# Altium schematic symbol library electromechanical.SchLib: 7 symbols
Pins are listed as number, name and electrical type; pins without a type are passive.

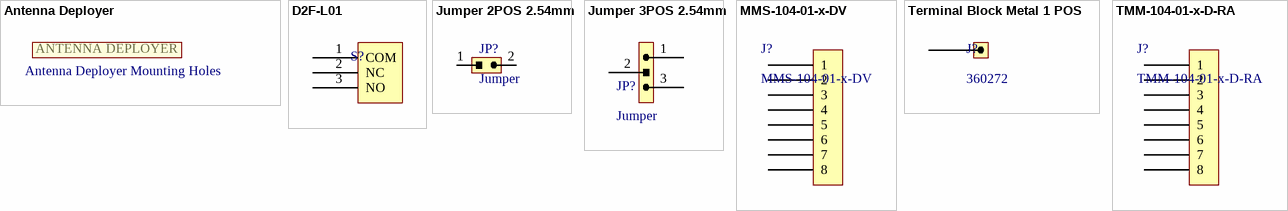
[diagram p0: symbols Antenna Deployer to TMM-104-01-x-D-RA]

## Antenna Deployer
designator MP?, comment Antenna Deployer Mounting Holes
footprint ANTENNA DEPLOYER
text: ANTENNA DEPLOYER

## D2F-L01
designator S?  (value not drawn)
SWITCH SNAP ACT SPDT 100MA 30V; Manufacturer 1: Omron; Manufacturer Part Number 1: D2F-01L; Description: Switch Snap Action N.O./N.C. SPDT Hinge Lever PC Pins 0.1A 30VDC 1.47N Screw Mount/Through Hole; Mechanical Life: 1000000Cycles; Actuator Material: Stainless Steel; Electrical Life: 30000Cycles; Switch Function: On-Mom; Operating Force: 0.78N; Differential Travel: 0.02inch; Overtravel: 0.022inch; Operating Position: 0.268inch; Actuator Type: HINGE LEVER; Number of Poles: 1; Insulation Resistance: 100MR; Ratings: IP40; Approvals: UL,CSA; Supplier 1: Digi-Key; Stock 1: 0; Pricing 1: 1=1.94000, 10=1.82800, 25=1.75480, 50=1.68160, 100=1.60840, 250=1.27944 (USD); RoHS: Yes; Mount: Through Hole,PCB,Screw; Contact Material: Gold; Contact Plating: Gold; Weight: 0.017637oz; Min Operating Temperature: -25°C; Max Operating Temperature: 65°C; Voltage Rating (DC): 30V; Throw Configuration: SPDT; Current Rating: 100mA; Packaging: Bulk; Termination: PC Pins; Max Voltage Rating (DC): 30V; Package Quantity: 1000; Series: D2F; Orientation: Straight; Max Current Rating: 100mA; Contact Current Rating: 100mA; Length: 13.95mm; Depth: 5.8mm; Radiation Hardening: No; Lead Free: Lead Free; REACH SVHC: No SVHC; ComponentLink1URL: https://datasheet.ciiva.com/26945/getdatasheetpartid-388881-26945786.pdf?src-supplier=Verical; ComponentLink1Description: https://datasheet.ciiva.com/26945/getdatasheetpartid-388881-26945786.pdf?src-supplier=Verical; ComponentLink2URL: https://datasheet.ciiva.com/1628/en-d2f-1628759.pdf?src-supplier=Farnell; ComponentLink2Description: https://datasheet.ciiva.com/1628/en-d2f-1628759.pdf?src-supplier=Farnell; ComponentLink3URL: https://datasheet.ciiva.com/2890/d2f-1113-2890889.pdf?src-supplier=Digi-Key; ComponentLink3Description: https://datasheet.ciiva.com/2890/d2f-1113-2890889.pdf?src-supplier=Digi-Key; ComponentLink4URL: https://datasheet.ciiva.com/14537/70175356-14537993.pdf?src-supplier=Allied+Electronics; ComponentLink4Description: https://datasheet.ciiva.com/14537/70175356-14537993.pdf?src-supplier=Allied+Electronics; ComponentLink5URL: https://datasheet.ciiva.com/16176/d2f-1110-16176606.pdf?src-supplier=Onlinecomponents.com; ComponentLink5Description: https://datasheet.ciiva.com/16176/d2f-1110-16176606.pdf?src-supplier=Onlinecomponents.com; ComponentLink6URL: https://datasheet.ciiva.com/1530/1825221-1530488.pdf?src-supplier=Element14; ComponentLink6Description: https://datasheet.ciiva.com/1530/1825221-1530488.pdf?src-supplier=Element14; ComponentLink7URL: https://datasheet.ciiva.com/1530/659393-1530504.pdf?src-supplier=Element14; ComponentLink7Description: https://datasheet.ciiva.com/1530/659393-1530504.pdf?src-supplier=Element14; ComponentLink8URL: https://datasheet.ciiva.com/14143/03587326-14143416.pdf?src-supplier=Distrelec; ComponentLink8Description: https://datasheet.ciiva.com/14143/03587326-14143416.pdf?src-supplier=Distrelec; Supplier Part Number 1: SW154-ND
footprint D2F-L
pins: 1 COM, 2 NC, 3 NO

## Jumper 2POS 2.54mm
designator JP?, comment Jumper
CONN HEADER VERT 2POS; Supplier 1: Digi-Key; Supplier Part Number 1: SAM1068-01-ND; Operating Temperature: -55°C ~ 125°C
footprint Jumper 2POS 2.54mm (CONN HEADER VERT 2POS 2.54MM)
pins: 1, 2

## Jumper 3POS 2.54mm
designator JP?, comment Jumper
CONN HEADER VERT 3POS; Operating Temperature: -55°C ~ 125°C; Supplier 1: Digi-Key; Supplier Part Number 1: SAM8995-ND
footprint Jumper 3POS 2.54mm (CONN HEADER VERT 3POS 2.54MM)
pins: 1, 2, 3

## MMS-104-01-x-DV
designator J?
HEADER F 2x4 2mm; Supplier 1: Digi-Key; Supplier Part Number 1: SAM1228-04-ND
footprint MMS-104-01-x-DV
pins: 1, 2, 3, 4, 5, 6, 7, 8

## Terminal Block Metal 1 POS
designator J?, comment 360272
TERM BLOCK 1POS SIDE ENTRY PCB; Supplier 1: Digi-Key; Supplier Part Number 1: 1849-1246-ND
footprint 360272 Terminal Block
pins: 1

## TMM-104-01-x-D-RA
designator J?
HEADER M 2x4 RA 2mm; Supplier 1: Digi-Key; Supplier Part Number 1: SAM12153-ND
footprint TMM-104-01-x-D-RA
pins: 1, 2, 3, 4, 5, 6, 7, 8